# EAGLE library part RTC-DS1307 (library gclue)
RTC DS1307 SMD
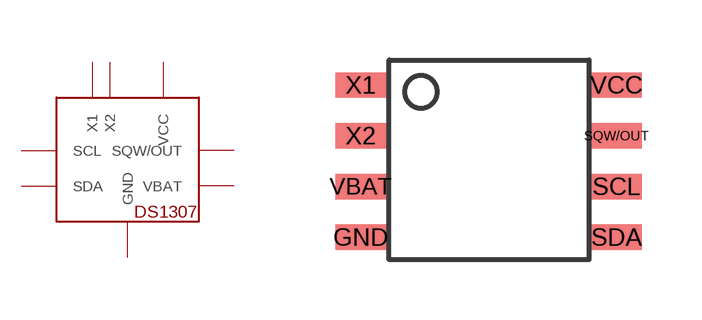
[diagram p14: symbol with the pads of RTC-DS130; footprint RTC-DS130]

Designator prefix U

## RTC-DS1307  [RTC-DS130]
GND  GND
SCL  SCL
SDA  SDA
SQW/OUT  SQW/OUT
VBAT  VBAT
VCC  VCC
X1  X1
X2  X2

## Footprint RTC-DS130 (pad centres in mm)
smd 1.27 x 0.635: GND -3.21,-1.94; SCL 3.19,-0.67; SDA 3.19,-1.94; SQW/OUT 3.19,0.6; VBAT -3.21,-0.67; VCC 3.19,1.87; X1 -3.21,1.87; X2 -3.21,0.6